# Altium schematic symbol library SCH - DRIVER - TI UCC21542DWR.SCHLIB: 1 symbol
Pins are listed as number, name and electrical type; pins without a type are passive.

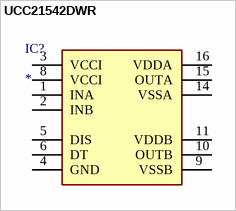
[diagram p0: symbol UCC21542DWR]

## UCC21542DWR
designator IC?
Integrated Circuit; Manufacturer_Name: Texas Instruments; Manufacturer_Part_Number: UCC21542DWR; Description: Gate Drivers Reinforced isolation dual-channel gate driver with 3.3-mm channel-to-channel spacing option 16-SOIC -40 to 125; Datasheet Link: https://www.ti.com/lit/ds/symlink/ucc21542.pdf?ts=1623395410745&ref_url=https%253A%252F%252Fwww.ti.com%252Fstore%252Fti%252Fen%252Fp%252Fproduct%252F%253Fp%253DUCC21542DWKR; Height: 2.65mm; Mouser Part Number: 595-UCC21542DWR; Mouser Price/Stock: https://www.mouser.co.uk/ProductDetail/Texas-Instruments/UCC21542DWR?qs=DRkmTr78QARxjB5fL7Hhaw%3D%3D
pins: 1 INA, 2 INB, 3 VCCI, 4 GND, 5 DIS, 6 DT, 8 VCCI, 9 VSSB, 10 OUTB, 11 VDDB, 14 VSSA, 15 OUTA, 16 VDDA